# Altium footprint library BR23301HE.PcbLib: 1 footprints
Each footprint in its own frame and in the unit in brackets; x right, y up, seen from the top. Pads: shape width x height; smd on the part's side, far side on the other; paste and mask are expansions set on the pad; w line width, h text height; cw(c..) or ccw(c..) is an arc to the next point about the centre after c.
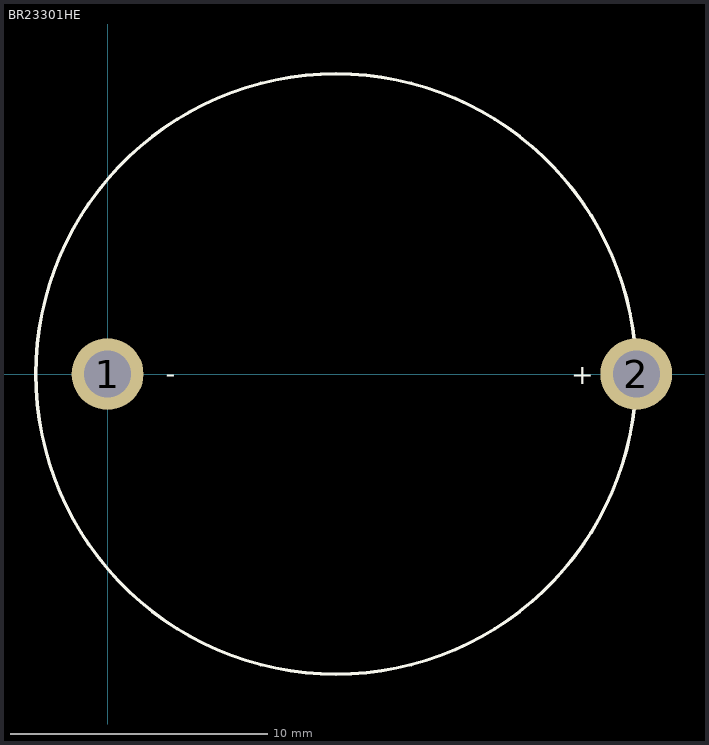
[diagram p0: the footprint, top view; thin cyan lines are the x and y axes]

## BR23301HE [mil]
height 120
pads (2):
  round 110 hole 72: 1(0,0) 2(810,0)
TopOverlay:
  circle w5: c350,0 r460
  text "+" at 710.16,-15.63 h30
  text "-" at 88.94,-14.09 h30
3D body: height 213.37, standoff -150.39, extent -252.84,-559.3 867.16,560.7